# Altium schematic symbol library SMD Passive.SchLib: 216 symbols (part 4 of 4)
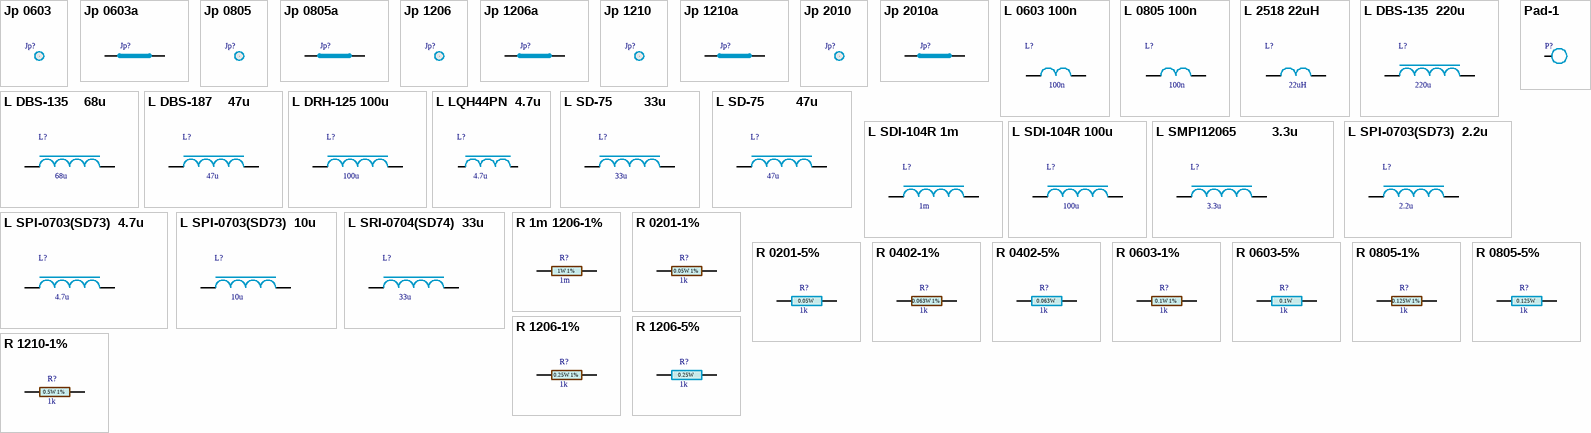
[diagram p8: symbols Jp 0603 to R 1210-1%]

## L SPI-0703(SD73)  10u
designator L?, comment value 10u  (hidden comment: 10uH)
0.96A 94mΩ  7.3x7.3x3.5mm; TYPE: Inductors; Isat: 0.96/L 90%; Idc - 40°C: 1.5A; Material: Ferrite; ZTyp@100MHz: * Ω; Package-mm: 7x7x3.2mm; Tolerance %: ±20%; Temperature Range: -55°C ~ +155°C; Part Number: *; Manufacturer: *; Irms: *; S.R.F.: *; DCR: 94mΩ; Technology: Power Shielded; Published: 07.04.2019; Publisher: Hefest; Mount Type: SMT; Package: SD-73; ComponentLink1Description: Datasheet Link; ComponentLink1URL: https://www.mouser.com/ds/2/597/ver2923-270656.pdf; RoHS: Y; Ztyp@1GHz: * Ω; Manufacturer Alternate: *; Supplier 1: Comet; Supplier Part Number 1: *; Part Number Alternate: *; Price: *; Ind: 10u
signal-integrity model Inductor
simulation model Inductor
footprint Dr SD-73 (7x7x3.2mm)
pins: 1, 2
1 alternate drawing of the same symbol

## L SRI-0704(SD74)  33u
designator L?, comment value 33u  (hidden comment: 33uH)
1.6A   0.17Ω 7.3x7.3x4.5mm; Part Number: SRI0704-330M; Manufacturer: CORE MASTER; TYPE: Inductors; Isat: 1.5A/L 90%; Material: Ferrite; ZTyp@100MHz: * Ω; Tolerance %: ±20%; Temperature Range: -55°C ~ +155°C; Idc - 40°C: 1.6A; Irms: *; S.R.F.: *; DCR: 0.17Ω; Technology: Power Shielded; Published: 07.04.2019; Publisher: Hefest; Mount Type: SMT; Package: DRH-74; ComponentLink1Description: Datasheet Link; ComponentLink1URL: https://store.comet.bg/download-file.php?id=13852; RoHS: Y; Ztyp@1GHz: * Ω; Manufacturer Alternate: *; Supplier 1: Comet; Supplier Part Number 1: CL33uH SRI0704 (DRH74); Package-mm: *; Part Number Alternate: *; Price: 0.883; Ind: 33u
signal-integrity model Inductor
simulation model Inductor
footprint Dr DRH-74
pins: 1, 2
1 alternate drawing of the same symbol

## Pad-1
designator P?  (value not drawn)
SMD; Current: 1A; Part Number: *; Mount Type: SMT; Publisher: Hefest; Manufacturer: *; Manufacturer Alternate: *; Published: 07.04.2019; Supplier 1: *; Supplier Part Number 1: *; RoHS: Y; Technology: *; Package: *; VDC: *; TempCo: *; Tolerance %: *; ComponentLink1Description: Datasheet Link; Temperature Range: -55°C ~ +125°C; Price: *; Part Number Alternate: *; TYPE: Pad; Package-mm: *; Power: *; Resistance: *; Value: *
footprint Pad 2.5
footprint Pad 2.5a
footprint Pad 3a
footprint Pad 3
pins: 1

## R 1m 1206-1%
designator R?, comment 1m
SMD 1206      1W   1% 200V; Part Number: PMR18EZPFV1L00; Manufacturer: ROHM; TempCo: ±100ppm/°C; Package-mm: 3216; Value Code: 1L00; Mount Type: SMT; Publisher: Hefest; Manufacturer Alternate: *; Published: 07.04.2019; Supplier 1: Mouser; Supplier Part Number 1: 755-PMR18EZPFV1L00; RoHS: Y; Technology: Thick film; Package: 1206; VDC: 200V; Tolerance %: ±1%; ComponentLink1Description: Datasheet Link; ComponentLink1URL: https://www.mouser.bg/datasheet/2/348/pmr-e-1139219.pdf; Temperature Range: -55°C ~ +155°C; Price: 1.02; Part Number Alternate: *; TYPE: Resistor; Power: 1W; Value: 1m
footprint R 1206(3216)-1%
simulation model Resistor (Model Description)
signal-integrity model Resistor (Model Description)
pins: 1, 2
1 alternate drawing of the same symbol
text: 1W 1%

## R 0201-1%
designator R?, comment 1k
SMD 0402 0.05W   1%   50V; Manufacturer: YAGEO; TempCo: ±100ppm/°C; Package-mm: 0603; Value Code: 1001; Part Number: *; Mount Type: SMT; Publisher: Hefest; Manufacturer Alternate: *; Published: 07.04.2019; Supplier 1: *; Supplier Part Number 1: R0201 1.0K 1% YAG/ASJ; RoHS: Y; Technology: Thick film; Package: 0201; VDC: 50V; Tolerance %: ±1%; ComponentLink1Description: Datasheet Link; ComponentLink1URL: https://store.comet.bg/download-file.php?id=1224; Temperature Range: -55°C ~ +155°C; Price: *; Part Number Alternate: *; TYPE: Resistor; Power: 0.05W; Value: 1k
footprint R 0201(0603)-1%
simulation model Resistor (Model Description)
signal-integrity model Resistor (Model Description)
pins: 1, 2
1 alternate drawing of the same symbol
text: 0.05W 1%

## R 0201-5%
designator R?, comment 1k
SMD 0201 0.05W   5%   50V; Manufacturer: YAGEO; Part Number Alternate: 0.012; TempCo: ±100ppm/°C; Package-mm: 0603; Value Code: 102; Part Number: *; Mount Type: SMT; Publisher: Hefest; Manufacturer Alternate: *; Published: 07.04.2019; Supplier 1: *; Supplier Part Number 1: R0201 1.0K 5% YAG/ASJ; RoHS: Y; Technology: Thick film; Package: 0201; VDC: 50V; Tolerance %: ±5%; ComponentLink1Description: Datasheet Link; ComponentLink1URL: https://store.comet.bg/download-file.php?id=1224; Temperature Range: -55°C ~ +155°C; Price: *; TYPE: Resistor; Power: 0.05W; Value: 1k
footprint R 0201(0603)
simulation model Resistor (Model Description)
signal-integrity model Resistor (Model Description)
pins: 1, 2
1 alternate drawing of the same symbol

## R 0402-1%
designator R?, comment 1k
SMD 0402 0.063W 1%   50V; Manufacturer: YAGEO; TempCo: ±100ppm/°C; Package-mm: 1005; Value Code: 1001; Power: 0.0625W; Part Number: *; Mount Type: SMT; Publisher: Hefest; Manufacturer Alternate: *; Published: 07.04.2019; Supplier 1: Comet; Supplier Part Number 1: R0402 1.0K 1% YAG/ASJ; RoHS: Y; Technology: Thick film; Package: 0402; VDC: 50V; Tolerance %: ±1%; ComponentLink1Description: Datasheet Link; ComponentLink1URL: https://store.comet.bg/download-file.php?id=1224; Temperature Range: -55°C ~ +155°C; Price: 0.015; Part Number Alternate: *; TYPE: Resistor; Value: 1k
footprint R 0402(1005)-1%
simulation model Resistor (Model Description)
signal-integrity model Resistor (Model Description)
pins: 1, 2
1 alternate drawing of the same symbol
text: 0.063W 1%

## R 0402-5%
designator R?, comment 1k
SMD 0402 0.063W 5%   50V; Manufacturer: YAGEO; Part Number Alternate: 0.012; TempCo: ±100ppm/°C; Package-mm: 1005; Value Code: 102; Power: 0.0625W; Part Number: *; Mount Type: SMT; Publisher: Hefest; Manufacturer Alternate: *; Published: 07.04.2019; Supplier 1: Comet; Supplier Part Number 1: R0402 1.0K 5% YAG/ASJ; RoHS: Y; Technology: Thick film; Package: 0402; VDC: 50V; Tolerance %: ±5%; ComponentLink1Description: Datasheet Link; ComponentLink1URL: https://store.comet.bg/download-file.php?id=1224; Temperature Range: -55°C ~ +155°C; Price: 0.0252; TYPE: Resistor; Value: 1k
footprint R 0402(1005)
simulation model Resistor (Model Description)
signal-integrity model Resistor (Model Description)
pins: 1, 2
1 alternate drawing of the same symbol
text: 0.063W

## R 0603-1%
designator R?, comment 1k
SMD 0603 0.1W     1%   75V; Manufacturer: YAGEO; TempCo: ±100ppm/°C; Package-mm: 1608; Value Code: 1001; Part Number: *; Mount Type: SMT; Publisher: Hefest; Manufacturer Alternate: *; Published: 07.04.2019; Supplier 1: Comet; Supplier Part Number 1: R0603 1.0K 1% YAG/ASJ; RoHS: Y; Technology: Thick film; Package: 0603; VDC: 75V; Tolerance %: ±1%; ComponentLink1Description: Datasheet Link; ComponentLink1URL: https://store.comet.bg/download-file.php?id=1224; Temperature Range: -55°C ~ +155°C; Price: 0.017; Part Number Alternate: *; TYPE: Resistor; Power: 0.1W; Value: 1k
footprint R 0603(1608) -1%
simulation model Resistor (Model Description)
signal-integrity model Resistor (Model Description)
pins: 1, 2
1 alternate drawing of the same symbol
text: 0.1W 1%

## R 0603-5%
designator R?, comment 1k
SMD 0603 0.1W     5%   75V; Manufacturer: YAGEO; TempCo: ±100ppm/°C; Package-mm: 1608; Value Code: 102; Part Number: *; Mount Type: SMT; Publisher: Hefest; Manufacturer Alternate: *; Published: 07.04.2019; Supplier 1: Comet; Supplier Part Number 1: R0603 1.0K 5% YAG/ASJ; RoHS: Y; Technology: Thick film; Package: 0603; VDC: 75V; Tolerance %: ±5%; ComponentLink1Description: Datasheet Link; ComponentLink1URL: https://store.comet.bg/download-file.php?id=140; Temperature Range: -55°C ~ +155°C; Price: 0.016; Part Number Alternate: *; TYPE: Resistor; Power: 0.1W; Value: 1k
footprint R 0603(1608)
simulation model Resistor (Model Description)
signal-integrity model Resistor (Model Description)
pins: 1, 2
1 alternate drawing of the same symbol

## R 0805-1%
designator R?, comment 1k
SMD 0805 0.125W 1% 150V; Manufacturer: YAGEO; TempCo: ±100ppm/°C; Package-mm: 2012; Value Code: 1001; Part Number: *; Mount Type: SMT; Publisher: Hefest; Manufacturer Alternate: *; Published: 07.04.2019; Supplier 1: Comet; Supplier Part Number 1: R0805 1.0K 1% YAG/ASJ; RoHS: Y; Technology: Thick film; Package: 0805; VDC: 150V; Tolerance %: ±1%; ComponentLink1Description: Datasheet Link; ComponentLink1URL: https://store.comet.bg/download-file.php?id=1224; Temperature Range: -55°C ~ +155°C; Price: 0.031; Part Number Alternate: *; TYPE: Resistor; Power: 0.125W; Value: 1k
footprint R 0805(2012)-1%
simulation model Resistor (Model Description)
signal-integrity model Resistor (Model Description)
pins: 1, 2
1 alternate drawing of the same symbol
text: 0.125W 1%

## R 0805-5%
designator R?, comment 1k
SMD 0805 0.125W 5% 150V; Manufacturer: YAGEO; TempCo: ±100ppm/°C; Package-mm: 2012; Value Code: 102; Part Number: *; Mount Type: SMT; Publisher: Hefest; Manufacturer Alternate: *; Published: 07.04.2019; Supplier 1: Comet; Supplier Part Number 1: R0805 1.0K 5% YAG; RoHS: Y; Technology: Thick film; Package: 0805; VDC: 150V; Tolerance %: ±5%; ComponentLink1Description: Datasheet Link; ComponentLink1URL: https://store.comet.bg/download-file.php?id=140; Temperature Range: -55°C ~ +155°C; Price: 0.029; Part Number Alternate: *; TYPE: Resistor; Power: 0.125W; Value: 1k
footprint R 0805(2012)
simulation model Resistor (Model Description)
signal-integrity model Resistor (Model Description)
pins: 1, 2
1 alternate drawing of the same symbol

## R 1206-1%
designator R?, comment 1k
SMD 1206 0.25W   1% 200V; Manufacturer: YAGEO; TempCo: ±100ppm/°C; Package-mm: 3216; Value Code: 1001; Part Number: *; Mount Type: SMT; Publisher: Hefest; Manufacturer Alternate: *; Published: 07.04.2019; Supplier 1: Comet; Supplier Part Number 1: R1206 1.0K 1% YAG/ASJ; RoHS: Y; Technology: Thick film; Package: 1206; VDC: 200V; Tolerance %: ±1%; ComponentLink1Description: Datasheet Link; ComponentLink1URL: https://store.comet.bg/download-file.php?id=1224; Temperature Range: -55°C ~ +155°C; Price: 0.069; Part Number Alternate: *; TYPE: Resistor; Power: 0.25W; Value: 1k
footprint R 1206(3216)-1%
simulation model Resistor (Model Description)
signal-integrity model Resistor (Model Description)
pins: 1, 2
1 alternate drawing of the same symbol
text: 0.25W 1%

## R 1206-5%
designator R?, comment 1k
SMD 1206 0.25W   5% 200V; Manufacturer: YAGEO; TempCo: ±100ppm/°C; Package-mm: 3216; Value Code: 102; Part Number: *; Mount Type: SMT; Publisher: Hefest; Manufacturer Alternate: *; Published: 07.04.2019; Supplier 1: Comet; Supplier Part Number 1: R1206 1.0K 5% YAG/ASJ; RoHS: Y; Technology: Thick film; Package: 1206; VDC: 200V; Tolerance %: ±5%; ComponentLink1Description: Datasheet Link; ComponentLink1URL: https://store.comet.bg/download-file.php?id=140; Temperature Range: -55°C ~ +155°C; Price: 0.054; Part Number Alternate: *; TYPE: Resistor; Power: 0.25W; Value: 1k
footprint R 1206(3216)
simulation model Resistor (Model Description)
signal-integrity model Resistor (Model Description)
pins: 1, 2
1 alternate drawing of the same symbol

## R 1210-1%
designator R?, comment 1k
SMD 1210 0.5W     1% 200V; Manufacturer: YAGEO; TempCo: ±100ppm/°C; Package-mm: 3225; Value Code: 1001; Part Number: *; Mount Type: SMT; Publisher: Hefest; Manufacturer Alternate: *; Published: 07.04.2019; Supplier 1: Comet; Supplier Part Number 1: R1210 1.0K 1% YAG/ASJ; RoHS: Y; Technology: Thick film; Package: 1210; VDC: 200V; Tolerance %: ±1%; ComponentLink1Description: Datasheet Link; ComponentLink1URL: https://store.comet.bg/download-file.php?id=1224; Temperature Range: -55°C ~ +155°C; Price: 0.104; Part Number Alternate: *; TYPE: Resistor; Power: 0.5W; Value: 1k
footprint R 1210(3225)-1%
simulation model Resistor (Model Description)
signal-integrity model Resistor (Model Description)
pins: 1, 2
1 alternate drawing of the same symbol
text: 0.5W 1%

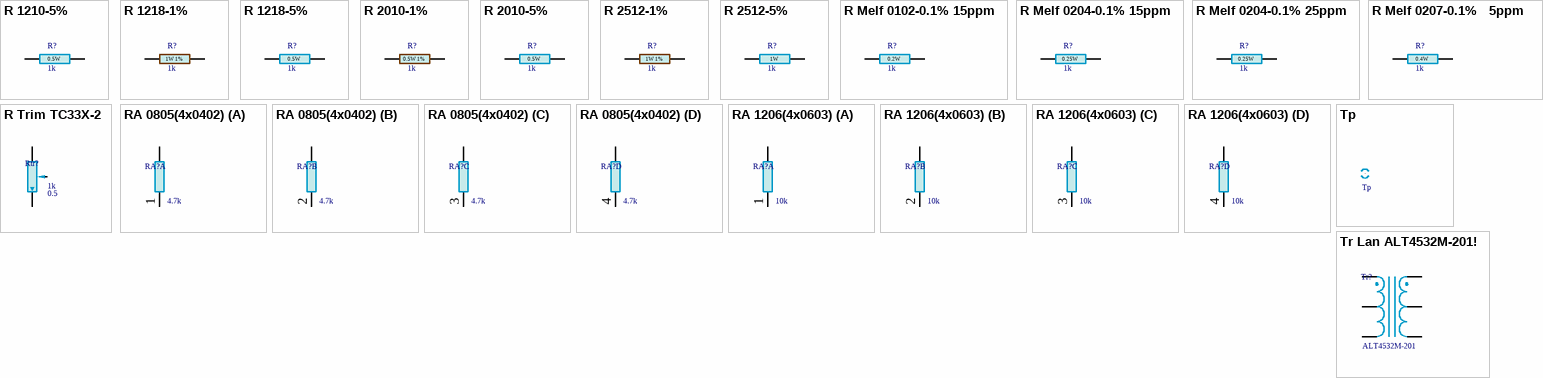
[diagram p5: symbols R 1210-5% to Tr Lan ALT4532M-201!]

## R 1210-5%
designator R?, comment 1k
SMD 1210 0.5W     5% 200V; Manufacturer: YAGEO; TempCo: ±100ppm/°C; Package-mm: 3225; Value Code: 102; Power: 0.25W; Part Number: *; Mount Type: SMT; Publisher: Hefest; Manufacturer Alternate: *; Published: 07.04.2019; Supplier 1: Comet; Supplier Part Number 1: R1210 1.0K 5% YAG/ASJ; RoHS: Y; Technology: Thick film; Package: 1210; VDC: 200V; Tolerance %: ±5%; ComponentLink1Description: Datasheet Link; ComponentLink1URL: https://store.comet.bg/download-file.php?id=140; Temperature Range: -55°C ~ +155°C; Price: 0.10; Part Number Alternate: *; TYPE: Resistor; Value: 1k
footprint R 1210(3225)
simulation model Resistor (Model Description)
signal-integrity model Resistor (Model Description)
pins: 1, 2
1 alternate drawing of the same symbol
text: 0.5W

## R 1218-1%
designator R?, comment 1k
SMD 1218 1W        1% 200V; Manufacturer: Vishay-Dale; TempCo: ±100ppm/°C; Package-mm: 3246; Value Code: 1001; Part Number: *; Mount Type: SMT; Publisher: Hefest; Manufacturer Alternate: *; Published: 07.04.2019; Supplier 1: Mouser; Supplier Part Number 1: *; RoHS: Y; Technology: Thick film; Package: 1218; VDC: 200V; Tolerance %: ±1%; ComponentLink1Description: Datasheet Link; ComponentLink1URL: http://www.vishay.com/docs/20035/dcrcwe3.pdf; Temperature Range: -55°C ~ +155°C; Price: *; Part Number Alternate: *; TYPE: Resistor; Power: 1W; Value: 1k
footprint R 1218(3246)-1%
simulation model Resistor (Model Description)
signal-integrity model Resistor (Model Description)
pins: 1, 2
1 alternate drawing of the same symbol
text: 1W 1%

## R 1218-5%
designator R?, comment 1k
SMD 1218 1W        5% 200V; Manufacturer: Vishay-Dale; TempCo: ±200ppm/°C; Package-mm: 3246; Value Code: 102; Part Number: *; Mount Type: SMT; Publisher: Hefest; Manufacturer Alternate: *; Published: 07.04.2019; Supplier 1: Mouser; Supplier Part Number 1: *; RoHS: Y; Technology: Thick film; Package: 1218; VDC: 200V; Tolerance %: ±5%; ComponentLink1Description: Datasheet Link; ComponentLink1URL: http://www.vishay.com/docs/20035/dcrcwe3.pdf; Temperature Range: -55°C ~ +155°C; Price: *; Part Number Alternate: *; TYPE: Resistor; Power: 1W; Value: 1k
footprint R 1218(3246)
simulation model Resistor (Model Description)
signal-integrity model Resistor (Model Description)
pins: 1, 2
1 alternate drawing of the same symbol
text: 0.5W

## R 2010-1%
designator R?, comment 1k
SMD 2010 0.75W   1% 200V; Manufacturer: YAGEO; TempCo: ±100ppm/°C; Package-mm: 5025; Value Code: 1001; Part Number: *; Mount Type: SMT; Publisher: Hefest; Manufacturer Alternate: *; Published: 07.04.2019; Supplier 1: Comet; Supplier Part Number 1: R2010 1.0K 1% YAG/ASJ; RoHS: Y; Technology: Thick film; Package: 2010; VDC: 200V; Tolerance %: ±1%; ComponentLink1Description: Datasheet Link; ComponentLink1URL: https://store.comet.bg/download-file.php?id=1224; Temperature Range: -55°C ~ +155°C; Price: 0.104; Part Number Alternate: *; TYPE: Resistor; Power: 0.75W; Value: 1k
footprint R 2010(5025)-1%
simulation model Resistor (Model Description)
signal-integrity model Resistor (Model Description)
pins: 1, 2
1 alternate drawing of the same symbol
text: 0.5W 1%

## R 2010-5%
designator R?, comment 1k
SMD 1210 0.75W   5% 200V; Manufacturer: YAGEO; TempCo: ±100ppm/°C; Package-mm: 5025; Value Code: 102; Part Number: *; Mount Type: SMT; Publisher: Hefest; Manufacturer Alternate: *; Published: 07.04.2019; Supplier 1: Comet; Supplier Part Number 1: R2010 1.0K 5% YAG/ASJ; RoHS: Y; Technology: Thick film; Package: 2010; VDC: 200V; Tolerance %: ±5%; ComponentLink1Description: Datasheet Link; ComponentLink1URL: https://store.comet.bg/download-file.php?id=140; Temperature Range: -55°C ~ +155°C; Price: 0.061; Part Number Alternate: *; TYPE: Resistor; Power: 0.75W; Value: 1k
footprint R 2010(5025)
simulation model Resistor (Model Description)
signal-integrity model Resistor (Model Description)
pins: 1, 2
1 alternate drawing of the same symbol
text: 0.5W

## R 2512-1%
designator R?, comment 1k
SMD 2512 1W   1% 200V; Manufacturer: YAGEO; TempCo: ±100ppm/°C; Package-mm: 6432; Value Code: 1001; Part Number: *; Mount Type: SMT; Publisher: Hefest; Manufacturer Alternate: *; Published: 07.04.2019; Supplier 1: Comet; Supplier Part Number 1: R2512 1.0K 1% YAG; RoHS: Y; Technology: Thick film; Package: 2512; VDC: 200V; Tolerance %: ±1%; ComponentLink1Description: Datasheet Link; ComponentLink1URL: https://store.comet.bg/download-file.php?id=4681; Temperature Range: -55°C ~ +155°C; Price: 0.114; Part Number Alternate: *; TYPE: Resistor; Power: 1W; Value: 1k
footprint R 2512(6432)-1%
simulation model Resistor (Model Description)
signal-integrity model Resistor (Model Description)
pins: 1, 2
1 alternate drawing of the same symbol
text: 1W 1%

## R 2512-5%
designator R?, comment 1k
SMD 2512 1W   5% 200V; Manufacturer: YAGEO; TempCo: ±100ppm/°C; Package-mm: 6432; Value Code: 102; Part Number: *; Mount Type: SMT; Publisher: Hefest; Manufacturer Alternate: *; Published: 07.04.2019; Supplier 1: Comet; Supplier Part Number 1: R2512 1.0K 5% YAG; RoHS: Y; Technology: Thick film; Package: 2512; VDC: 200V; Tolerance %: ±5%; ComponentLink1Description: Datasheet Link; ComponentLink1URL: https://store.comet.bg/download-file.php?id=140; Temperature Range: -55°C ~ +155°C; Price: 0.114; Part Number Alternate: *; TYPE: Resistor; Power: 1W; Value: 1k
footprint R 2512(6432)
simulation model Resistor (Model Description)
signal-integrity model Resistor (Model Description)
pins: 1, 2
1 alternate drawing of the same symbol

## R Melf 0102-0.1% 15ppm
designator R?, comment 1k
SMD MMU 0102 0.2W   0.1%   150V; Part Number: MMU01020E1001BB300; Manufacturer: Vishay; Part Number Alternate: 13.152; TempCo: ±15ppm/°C; Package-mm: RC2211M; Value Code: 1001; Mount Type: SMT; Publisher: Hefest; Manufacturer Alternate: *; Published: 07.04.2019; Supplier 1: Mouser; Supplier Part Number 1: 594-MMU01020E1001BB3; RoHS: Y; Technology: Thin film; Package: Melf 0102; VDC: 150V; Tolerance %: ±0.1%; ComponentLink1Description: Datasheet Link; ComponentLink1URL: https://www.mouser.bg/datasheet/2/427/melfpre-239716.pdf; Temperature Range: -55°C ~ +125°C; Price: *; TYPE: Resistor; Power: 0.2W; Value: 1k
footprint R Melf 0102
simulation model Resistor (Model Description)
signal-integrity model Resistor (Model Description)
pins: 1, 2
1 alternate drawing of the same symbol

## R Melf 0204-0.1% 15ppm
designator R?, comment 1k
SMD MMA 0204 0.25W 0.1%   200V; Part Number: MMA02040E1001BB100; Manufacturer: Vishay; Part Number Alternate: 1.992; TempCo: ±15ppm/°C; Package-mm: RC3715M; Value Code: 1001; Mount Type: SMT; Publisher: Hefest; Manufacturer Alternate: *; Published: 07.04.2019; Supplier 1: Mouser; Supplier Part Number 1: 594-MMA02040E1001BB1; RoHS: Y; Technology: Thin film; Package: Melf 0204; VDC: 200V; Tolerance %: ±0.1%; ComponentLink1Description: Datasheet Link; ComponentLink1URL: https://www.mouser.bg/datasheet/2/427/melfpre-239716.pdf; Temperature Range: -55°C ~ +125°C; Price: *; TYPE: Resistor; Power: 0.25W; Value: 1k
footprint R Melf 0204
simulation model Resistor (Model Description)
signal-integrity model Resistor (Model Description)
pins: 1, 2
1 alternate drawing of the same symbol

## R Melf 0204-0.1% 25ppm
designator R?, comment 1k
SMD MMA 0204 0.25W 0.1%   200V; Part Number: MMA02040D1001BB100; Manufacturer: Vishay; Part Number Alternate: 1.32; TempCo: ±25ppm/°C; Package-mm: RC3715M; Value Code: 102; Mount Type: SMT; Publisher: Hefest; Manufacturer Alternate: *; Published: 07.04.2019; Supplier 1: Mouser; Supplier Part Number 1: 594-MMA02040D1001BB1; RoHS: Y; Technology: Thin film; Package: Melf 0204; VDC: 200V; Tolerance %: ±0.1%; ComponentLink1Description: Datasheet Link; ComponentLink1URL: https://www.mouser.bg/datasheet/2/427/melfprof-110077.pdf; Temperature Range: -55°C ~ +125°C; Price: *; TYPE: Resistor; Power: 0.25W; Value: 1k
footprint R Melf 0204
simulation model Resistor (Model Description)
signal-integrity model Resistor (Model Description)
pins: 1, 2
1 alternate drawing of the same symbol

## R Melf 0207-0.1%   5ppm
designator R?, comment 1k
SMD MMB 0204 0.4W   0.1%   200V; Part Number: UMB02070G1001BBU00; Manufacturer: Vishay; Part Number Alternate: 10.392; VDC: 350V; TempCo: ±5ppm/°C; Package-mm: RC6123M; Value Code: 1001; Mount Type: SMT; Publisher: Hefest; Manufacturer Alternate: *; Published: 07.04.2019; Supplier 1: Mouser; Supplier Part Number 1: *; RoHS: Y; Technology: Thin film; Package: Melf 0207; Tolerance %: ±0.1%; ComponentLink1Description: Datasheet Link; ComponentLink1URL: https://www.mouser.bg/datasheet/2/427/umx020x-336932.pdf; Temperature Range: -55°C ~ +125°C; Price: *; TYPE: Resistor; Power: 0.4W; Value: 1k
footprint R Melf 0207 (Metal Electrode Face (MELF) Diode; Body 5 x 2.5 mm (LxDia))
simulation model Resistor (Model Description)
signal-integrity model Resistor (Model Description)
pins: 1, 2
1 alternate drawing of the same symbol

## R Trim TC33X-2
designator Rtr?, comment Set Position: 0.5  (hidden comment: 1k)
SMD Trimpot 3mm 0.1W 25%; Part Number: TC33X-2-102E; Manufacturer: Bourns; TempCo: ±250ppm/°C; Tolerance %: ±5%; Package-mm: 3.0x3.8x1.2mm; Value Code: 102; Rotational Cycling: 20; Mount Type: SMT; Publisher: Hefest; Manufacturer Alternate: *; Published: 07.04.2019; Supplier 1: Comet; Supplier Part Number 1: TC33X-2 1K; RoHS: Y; Technology: Thick film; Package: 3mm; VDC: *; ComponentLink1Description: Datasheet Link; ComponentLink1URL: https://store.comet.bg/download-file.php?id=5079; Temperature Range: -40°C ~ +100°C; Price: 0.23; Part Number Alternate: *; TYPE: TrimPot; Power: 0.1W; Value: 1k
footprint Rtr SMD3N
signal-integrity model Resistor (Model Description)
simulation model Potentiometer (Model Description)
footprint Rtr SMD3L
pins: 1, 2, 3
1 alternate drawing of the same symbol

## RA 0805(4x0402)
designator RA?, comment 4.7k
SMD 0805 (4RM-0402) 0.0625W 5%; Part Number: YC124-JR-074K7L; Manufacturer: YAGEO; VDC: 25V; TempCo: ±200ppm/°C; Package-mm: 2012; Value Code: 473; Mount Type: SMT; Publisher: Hefest; Manufacturer Alternate: *; Published: 07.04.2019; Supplier 1: Comet; Supplier Part Number 1: RA0805(4X0402)4B8 4.7K Yag; RoHS: Y; Technology: Thick film; Package: 0805; Tolerance %: ±5%; ComponentLink1Description: Datasheet Link; ComponentLink1URL: https://store.comet.bg/download-file.php?id=17868; Temperature Range: -55°C ~ +155°C; Price: 0.196; Part Number Alternate: *; TYPE: Resistor Networks; Power: 0.0625W; Value: 4.7k
footprint RA0805(4D02)L (Chip Array, Flat, 8-Leads, Pitch 0.50mm,  Body 2.00x1.00mm,  IPC High Density)
simulation model Resistor (Model Description)
signal-integrity model Resistor (Model Description)
part A pins: 1, 8
part B pins: 2, 7
part C pins: 3, 6
part D pins: 4, 5
1 alternate drawing of the same symbol

## RA 1206(4x0603)
designator RA?, comment 10k
SMD 1206 (4RM-0603) 0.0625W 5%; Manufacturer: UniOhm; VDC: 50V; TempCo: ±200ppm/°C; Package-mm: 2012; Value Code: 103; Part Number: *; Mount Type: SMT; Publisher: Hefest; Manufacturer Alternate: *; Published: 07.04.2019; Supplier 1: Comet; Supplier Part Number 1: RA1206 (4X0603) 4B8 10K; RoHS: Y; Technology: Thick film; Package: 1206; Tolerance %: ±5%; ComponentLink1Description: Datasheet Link; ComponentLink1URL: https://store.comet.bg/download-file.php?id=365; Temperature Range: -55°C ~ +155°C; Price: 0.031; Part Number Alternate: *; TYPE: Resistor Networks; Power: 0.0625W; Value: 10k
footprint RA1206(4x0603)
simulation model Resistor (Model Description)
signal-integrity model Resistor (Model Description)
part A pins: 1, 8
part B pins: 2, 7
part C pins: 3, 6
part D pins: 4, 5
1 alternate drawing of the same symbol

## Tp
designator Tp?  (no BOM)
TestPoint; TYPE: TestPoint; Technology: PCB; Mount Type: SMT; Package: TestPoint; Published: 07.04.2019; Publisher: Hefest; Value: Tp
footprint Tp-0.5
footprint Tp-0.6
footprint Tp-0.7
footprint Tp-0.8
footprint Tp-0.4
pins: 1
1 alternate drawing of the same symbol

## Tr Lan ALT4532M-201!
designator Tr?, comment ALT4532M-201
SMD LAN; Part Number: ALT4532M-201-T001; Manufacturer: TDK; TYPE: Transformer; Ind: 200uH; Insertion Loss: 1.5dB (0.1-100MHz); Insertion-winding staey Cap: 35pF; Turns ratio: 1:1; Package-mm: 4.5x3.2x2.9mm; Q@100MHz: 65; Temperature Range: -40°C ~ +85°C; DCR: *; Technology: LAN; Material: *; Published: 07.04.2019; Publisher: Hefest; Mount Type: SMT; Package: SMD; ComponentLink1Description: Datasheet Link; ComponentLink1URL: https://www.mouser.bg/datasheet/2/400/lt4532-eva-01-1281410.pdf; RoHS: Y; S.R.F.: *; Manufacturer Alternate: *; Supplier 1: Mouser; Supplier Part Number 1: 810-ALT4532M201-T001; Part Number Alternate: *; Price: 3.38; Tolerance %: *; Value: ALT4532M-201
footprint Tr LAN ALT4532
pins: 1, 2, 3, 4, 5, 6
1 alternate drawing of the same symbol